# EAGLE library part COLUMN20 (library expboard)
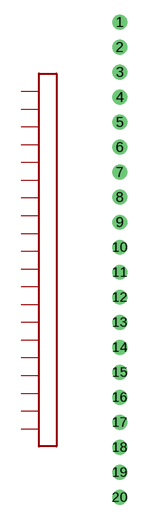
[diagram p5: symbol with the pads of COLUMN20SIMPLE; footprint COLUMN20SIMPLE]

Designator prefix -

## COLUMN20SIMPLE  [COLUMN20SIMPLE]
1  1
2  2
3  3
4  4
5  5
6  6
7  7
8  8
9  9
10  10
11  11
12  12
13  13
14  14
15  15
16  16
17  17
18  18
19  19
20  20

## Footprint COLUMN20SIMPLE (pad centres in mm)
drill 1 round: 1 0,22.86; 2 0,20.32; 3 0,17.78; 4 0,15.24; 5 0,12.7; 6 0,10.16; 7 0,7.62; 8 0,5.08; 9 0,2.54; 10 0,0; 11 0,-2.54; 12 0,-5.08; 13 0,-7.62; 14 0,-10.16; 15 0,-12.7; 16 0,-15.24; 17 0,-17.78; 18 0,-20.32; 19 0,-22.86; 20 0,-25.4